# Altium footprint library Diode_Nexperia_BAT54C,215_eec_MFG.PcbLib: 1 footprints
Each footprint in its own frame and in the unit in brackets; x right, y up, seen from the top. Pads: shape width x height; smd on the part's side, far side on the other; paste and mask are expansions set on the pad; w line width, h text height; cw(c..) or ccw(c..) is an arc to the next point about the centre after c.
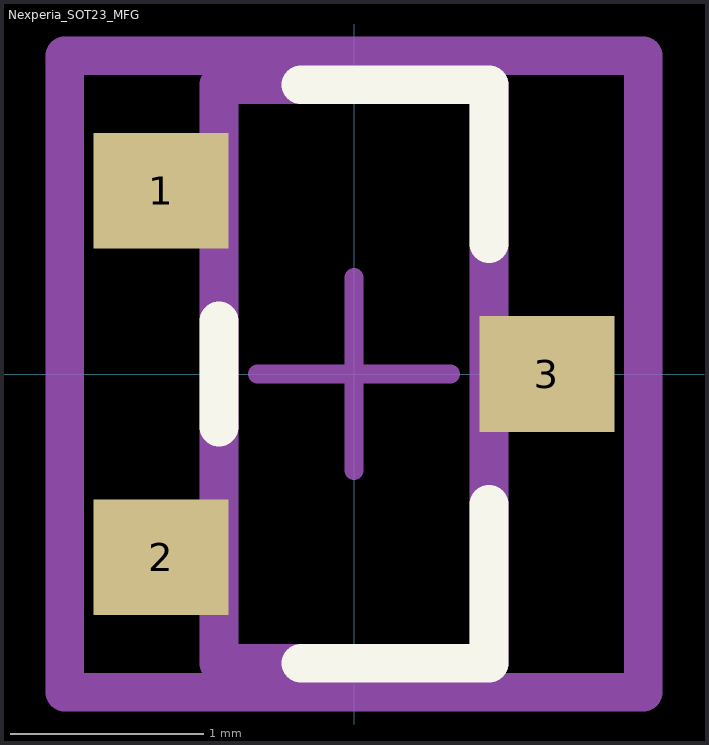
[diagram p0: the footprint, top view; thin cyan lines are the x and y axes]

## Nexperia_SOT23_MFG [mm]
pads (3):
  rect 0.7x0.6 smd paste-1000 mask+0: 1(-1,0.95) 2(-1,-0.95) 3(1,0)
Top Overlay:
  lines w0.2: -0.7,-0.275 -0.7,0.275 ; -0.275,-1.5 0.7,-1.5 0.7,-0.675 ; -0.275,1.5 0.7,1.5 0.7,0.675
Top Paste:
  rectangle: 0.7,-0.25 1.3,0.25
  rectangle: -1.3,0.7 -0.7,1.2
  rectangle: -1.3,-1.2 -0.7,-0.7
Mechanical 10:
  lines w0.2: -1.5,-1.65 1.5,-1.65 1.5,1.65 -1.5,1.65 -1.5,-1.65
  text ".Designator" at 0,0 h1
Mechanical 12:
  lines w0.2: -0.7,-1.5 0.7,-1.5 0.7,1.5 -0.7,1.5 -0.7,-1.5
Mechanical 15:
  lines w0.1: -0.5,0 0.5,0 ; 0,-0.5 0,0.5
  lines w0.2: -1.5,-1.65 1.5,-1.65 1.5,1.65 -1.5,1.65 -1.5,-1.65
3D body "Diode_Nexperia_BAT54C,215_eec.STEP": height 0.25, standoff 0, extent -1.5,-1.65 1.5,1.65